# Altium schematic symbol library jlcpcb_2025_04_resistors_extended_1812.schlib: 557 symbols (part 6 of 9)
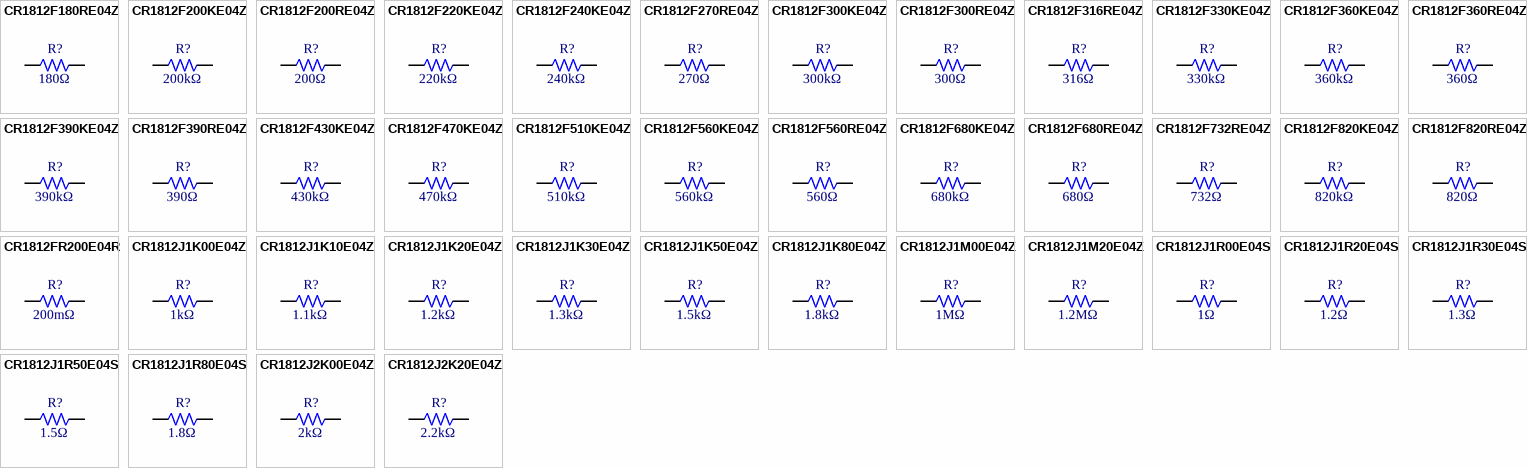
[diagram p18: symbols CR1812F180RE04Z to CR1812J2K20E04Z]

## CR1812J1M20E04Z
designator R?  Resistance: 1.2MΩ  (hidden comment: *)
Resistor, 1.2MΩ, ±5%, 500mW, 200V, ±100ppm/℃, -55℃~+155℃, SMD 1812; Manufacturer: Uniroyal; Manufacturer Part Number: CR1812J1M20E04Z; Supplier 1: LCSC; Supplier Part Number 1: C174913; JLCPCB Part Number: C174913; Power Rating: 500mW; Category: Resistors; Package Size: 1812; JLCPCB Basic Part: Yes; Tolerance: ±5%; Voltage Rating: 200V; Temperature Coefficient: ±100ppm/℃; Temperature Rating: -55℃~+155℃; ComponentLink1Description: Datasheet; ComponentLink1URL: https://wmsc.lcsc.com/wmsc/upload/file/pdf/v2/lcsc/2304140030_Ever-Ohms-Tech-CR1812J1M20E04Z_C174913.pdf; ComponentLink2Description: JLCPCB Part URL; ComponentLink2URL: https://jlcpcb.com/partdetail/C174913
pins: 1, 2
1 alternate drawing of the same symbol

## CR1812J1R00E04S
designator R?  Resistance: 1Ω  (hidden comment: *)
Resistor, 1Ω, ±5%, 750mW, 200V, ±300ppm/℃, -55℃~+155℃, SMD 1812; Manufacturer: Uniroyal; Manufacturer Part Number: CR1812J1R00E04S; Supplier 1: LCSC; Supplier Part Number 1: C428974; JLCPCB Part Number: C428974; Power Rating: 750mW; Category: Resistors; Package Size: 1812; JLCPCB Basic Part: Yes; Tolerance: ±5%; Voltage Rating: 200V; Temperature Coefficient: ±300ppm/℃; Temperature Rating: -55℃~+155℃; ComponentLink1Description: Datasheet; ComponentLink1URL: https://wmsc.lcsc.com/wmsc/upload/file/pdf/v2/lcsc/2304140030_Ever-Ohms-Tech-CR1812J1R00E04S_C428974.pdf; ComponentLink2Description: JLCPCB Part URL; ComponentLink2URL: https://jlcpcb.com/partdetail/C428974
pins: 1, 2
1 alternate drawing of the same symbol

## CR1812J1R20E04S
designator R?  Resistance: 1.2Ω  (hidden comment: *)
Resistor, 1.2Ω, ±5%, 500mW, 200V, ±400ppm/℃, -55℃~+155℃, SMD 1812; Manufacturer: Uniroyal; Manufacturer Part Number: CR1812J1R20E04S; Supplier 1: LCSC; Supplier Part Number 1: C174814; JLCPCB Part Number: C174814; Power Rating: 500mW; Category: Resistors; Package Size: 1812; JLCPCB Basic Part: Yes; Tolerance: ±5%; Voltage Rating: 200V; Temperature Coefficient: ±400ppm/℃; Temperature Rating: -55℃~+155℃; ComponentLink1Description: Datasheet; ComponentLink1URL: https://wmsc.lcsc.com/wmsc/upload/file/pdf/v2/lcsc/2304140030_Ever-Ohms-Tech-CR1812J1R20E04S_C174814.pdf; ComponentLink2Description: JLCPCB Part URL; ComponentLink2URL: https://jlcpcb.com/partdetail/C174814
pins: 1, 2
1 alternate drawing of the same symbol

## CR1812J1R30E04S
designator R?  Resistance: 1.3Ω  (hidden comment: *)
Resistor, 1.3Ω, ±5%, 500mW, 200V, ±400ppm/℃, -55℃~+155℃, SMD 1812; Manufacturer: Uniroyal; Manufacturer Part Number: CR1812J1R30E04S; Supplier 1: LCSC; Supplier Part Number 1: C174815; JLCPCB Part Number: C174815; Power Rating: 500mW; Category: Resistors; Package Size: 1812; JLCPCB Basic Part: Yes; Tolerance: ±5%; Voltage Rating: 200V; Temperature Coefficient: ±400ppm/℃; Temperature Rating: -55℃~+155℃; ComponentLink1Description: Datasheet; ComponentLink1URL: https://wmsc.lcsc.com/wmsc/upload/file/pdf/v2/lcsc/2304140030_Ever-Ohms-Tech-CR1812J1R30E04S_C174815.pdf; ComponentLink2Description: JLCPCB Part URL; ComponentLink2URL: https://jlcpcb.com/partdetail/C174815
pins: 1, 2
1 alternate drawing of the same symbol

## CR1812J1R50E04S
designator R?  Resistance: 1.5Ω  (hidden comment: *)
Resistor, 1.5Ω, ±5%, 500mW, 200V, ±400ppm/℃, -55℃~+155℃, SMD 1812; Manufacturer: Uniroyal; Manufacturer Part Number: CR1812J1R50E04S; Supplier 1: LCSC; Supplier Part Number 1: C174816; JLCPCB Part Number: C174816; Power Rating: 500mW; Category: Resistors; Package Size: 1812; JLCPCB Basic Part: Yes; Tolerance: ±5%; Voltage Rating: 200V; Temperature Coefficient: ±400ppm/℃; Temperature Rating: -55℃~+155℃; ComponentLink1Description: Datasheet; ComponentLink1URL: https://wmsc.lcsc.com/wmsc/upload/file/pdf/v2/lcsc/2304140030_Ever-Ohms-Tech-CR1812J1R50E04S_C174816.pdf; ComponentLink2Description: JLCPCB Part URL; ComponentLink2URL: https://jlcpcb.com/partdetail/C174816
pins: 1, 2
1 alternate drawing of the same symbol

## CR1812J1R80E04S
designator R?  Resistance: 1.8Ω  (hidden comment: *)
Resistor, 1.8Ω, ±5%, 500mW, 200V, ±400ppm/℃, -55℃~+155℃, SMD 1812; Manufacturer: Uniroyal; Manufacturer Part Number: CR1812J1R80E04S; Supplier 1: LCSC; Supplier Part Number 1: C174818; JLCPCB Part Number: C174818; Power Rating: 500mW; Category: Resistors; Package Size: 1812; JLCPCB Basic Part: Yes; Tolerance: ±5%; Voltage Rating: 200V; Temperature Coefficient: ±400ppm/℃; Temperature Rating: -55℃~+155℃; ComponentLink1Description: Datasheet; ComponentLink1URL: https://wmsc.lcsc.com/wmsc/upload/file/pdf/v2/lcsc/2304140030_Ever-Ohms-Tech-CR1812J1R80E04S_C174818.pdf; ComponentLink2Description: JLCPCB Part URL; ComponentLink2URL: https://jlcpcb.com/partdetail/C174818
pins: 1, 2
1 alternate drawing of the same symbol

## CR1812J2K00E04Z
designator R?  Resistance: 2kΩ  (hidden comment: *)
Resistor, 2kΩ, ±5%, 500mW, 200V, ±100ppm/℃, -55℃~+155℃, SMD 1812; Manufacturer: Uniroyal; Manufacturer Part Number: CR1812J2K00E04Z; Supplier 1: LCSC; Supplier Part Number 1: C174865; JLCPCB Part Number: C174865; Power Rating: 500mW; Category: Resistors; Package Size: 1812; JLCPCB Basic Part: Yes; Tolerance: ±5%; Voltage Rating: 200V; Temperature Coefficient: ±100ppm/℃; Temperature Rating: -55℃~+155℃; ComponentLink1Description: Datasheet; ComponentLink1URL: https://wmsc.lcsc.com/wmsc/upload/file/pdf/v2/lcsc/2304140030_Ever-Ohms-Tech-CR1812J2K00E04Z_C174865.pdf; ComponentLink2Description: JLCPCB Part URL; ComponentLink2URL: https://jlcpcb.com/partdetail/C174865
pins: 1, 2
1 alternate drawing of the same symbol

## CR1812J2K20E04Z
designator R?  Resistance: 2.2kΩ  (hidden comment: *)
Resistor, 2.2kΩ, ±5%, 500mW, 200V, ±100ppm/℃, -55℃~+155℃, SMD 1812; Manufacturer: Uniroyal; Manufacturer Part Number: CR1812J2K20E04Z; Supplier 1: LCSC; Supplier Part Number 1: C174866; JLCPCB Part Number: C174866; Power Rating: 500mW; Category: Resistors; Package Size: 1812; JLCPCB Basic Part: Yes; Tolerance: ±5%; Voltage Rating: 200V; Temperature Coefficient: ±100ppm/℃; Temperature Rating: -55℃~+155℃; ComponentLink1Description: Datasheet; ComponentLink1URL: https://wmsc.lcsc.com/wmsc/upload/file/pdf/v2/lcsc/2304140030_Ever-Ohms-Tech-CR1812J2K20E04Z_C174866.pdf; ComponentLink2Description: JLCPCB Part URL; ComponentLink2URL: https://jlcpcb.com/partdetail/C174866
pins: 1, 2
1 alternate drawing of the same symbol

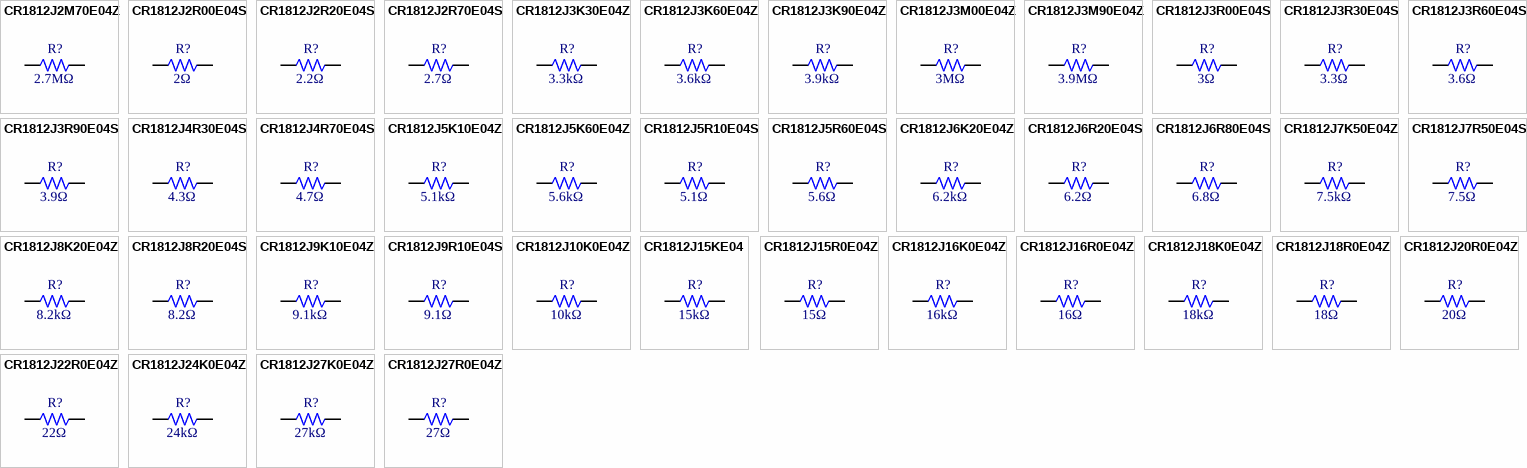
[diagram p8: symbols CR1812J2M70E04Z to CR1812J27R0E04Z]

## CR1812J2M70E04Z
designator R?  Resistance: 2.7MΩ  (hidden comment: *)
Resistor, 2.7MΩ, ±5%, 500mW, 200V, ±100ppm/℃, -55℃~+155℃, SMD 1812; Manufacturer: Uniroyal; Manufacturer Part Number: CR1812J2M70E04Z; Supplier 1: LCSC; Supplier Part Number 1: C174919; JLCPCB Part Number: C174919; Power Rating: 500mW; Category: Resistors; Package Size: 1812; JLCPCB Basic Part: Yes; Tolerance: ±5%; Voltage Rating: 200V; Temperature Coefficient: ±100ppm/℃; Temperature Rating: -55℃~+155℃; ComponentLink1Description: Datasheet; ComponentLink1URL: https://wmsc.lcsc.com/wmsc/upload/file/pdf/v2/lcsc/2304140030_Ever-Ohms-Tech-CR1812J2M70E04Z_C174919.pdf; ComponentLink2Description: JLCPCB Part URL; ComponentLink2URL: https://jlcpcb.com/partdetail/C174919
pins: 1, 2
1 alternate drawing of the same symbol

## CR1812J2R00E04S
designator R?  Resistance: 2Ω  (hidden comment: *)
Resistor, 2Ω, ±5%, 500mW, 200V, ±400ppm/℃, -55℃~+155℃, SMD 1812; Manufacturer: Uniroyal; Manufacturer Part Number: CR1812J2R00E04S; Supplier 1: LCSC; Supplier Part Number 1: C149839; JLCPCB Part Number: C149839; Power Rating: 500mW; Category: Resistors; Package Size: 1812; JLCPCB Basic Part: Yes; Tolerance: ±5%; Voltage Rating: 200V; Temperature Coefficient: ±400ppm/℃; Temperature Rating: -55℃~+155℃; ComponentLink1Description: Datasheet; ComponentLink1URL: https://wmsc.lcsc.com/wmsc/upload/file/pdf/v2/lcsc/2304140030_Ever-Ohms-Tech-CR1812J2R00E04S_C149839.pdf; ComponentLink2Description: JLCPCB Part URL; ComponentLink2URL: https://jlcpcb.com/partdetail/C149839
pins: 1, 2
1 alternate drawing of the same symbol

## CR1812J2R20E04S
designator R?  Resistance: 2.2Ω  (hidden comment: *)
Resistor, 2.2Ω, ±5%, 500mW, 200V, ±400ppm/℃, -55℃~+155℃, SMD 1812; Manufacturer: Uniroyal; Manufacturer Part Number: CR1812J2R20E04S; Supplier 1: LCSC; Supplier Part Number 1: C174819; JLCPCB Part Number: C174819; Power Rating: 500mW; Category: Resistors; Package Size: 1812; JLCPCB Basic Part: Yes; Tolerance: ±5%; Voltage Rating: 200V; Temperature Coefficient: ±400ppm/℃; Temperature Rating: -55℃~+155℃; ComponentLink1Description: Datasheet; ComponentLink1URL: https://wmsc.lcsc.com/wmsc/upload/file/pdf/v2/lcsc/2304140030_Ever-Ohms-Tech-CR1812J2R20E04S_C174819.pdf; ComponentLink2Description: JLCPCB Part URL; ComponentLink2URL: https://jlcpcb.com/partdetail/C174819
pins: 1, 2
1 alternate drawing of the same symbol

## CR1812J2R70E04S
designator R?  Resistance: 2.7Ω  (hidden comment: *)
Resistor, 2.7Ω, ±5%, 500mW, 200V, ±400ppm/℃, -55℃~+155℃, SMD 1812; Manufacturer: Uniroyal; Manufacturer Part Number: CR1812J2R70E04S; Supplier 1: LCSC; Supplier Part Number 1: C174820; JLCPCB Part Number: C174820; Power Rating: 500mW; Category: Resistors; Package Size: 1812; JLCPCB Basic Part: Yes; Tolerance: ±5%; Voltage Rating: 200V; Temperature Coefficient: ±400ppm/℃; Temperature Rating: -55℃~+155℃; ComponentLink1Description: Datasheet; ComponentLink1URL: https://wmsc.lcsc.com/wmsc/upload/file/pdf/v2/lcsc/2304140030_Ever-Ohms-Tech-CR1812J2R70E04S_C174820.pdf; ComponentLink2Description: JLCPCB Part URL; ComponentLink2URL: https://jlcpcb.com/partdetail/C174820
pins: 1, 2
1 alternate drawing of the same symbol

## CR1812J3K30E04Z
designator R?  Resistance: 3.3kΩ  (hidden comment: *)
Resistor, 3.3kΩ, ±5%, 500mW, 200V, ±100ppm/℃, -55℃~+155℃, SMD 1812; Manufacturer: Uniroyal; Manufacturer Part Number: CR1812J3K30E04Z; Supplier 1: LCSC; Supplier Part Number 1: C245663; JLCPCB Part Number: C245663; Power Rating: 500mW; Category: Resistors; Package Size: 1812; JLCPCB Basic Part: Yes; Tolerance: ±5%; Voltage Rating: 200V; Temperature Coefficient: ±100ppm/℃; Temperature Rating: -55℃~+155℃; ComponentLink1Description: Datasheet; ComponentLink1URL: https://wmsc.lcsc.com/wmsc/upload/file/pdf/v2/lcsc/2404011707_Ever-Ohms-Tech-CR1812J3K30E04Z_C245663.pdf; ComponentLink2Description: JLCPCB Part URL; ComponentLink2URL: https://jlcpcb.com/partdetail/C245663
pins: 1, 2
1 alternate drawing of the same symbol

## CR1812J3K60E04Z
designator R?  Resistance: 3.6kΩ  (hidden comment: *)
Resistor, 3.6kΩ, ±5%, 500mW, 200V, ±100ppm/℃, -55℃~+155℃, SMD 1812; Manufacturer: Uniroyal; Manufacturer Part Number: CR1812J3K60E04Z; Supplier 1: LCSC; Supplier Part Number 1: C174869; JLCPCB Part Number: C174869; Power Rating: 500mW; Category: Resistors; Package Size: 1812; JLCPCB Basic Part: Yes; Tolerance: ±5%; Voltage Rating: 200V; Temperature Coefficient: ±100ppm/℃; Temperature Rating: -55℃~+155℃; ComponentLink1Description: Datasheet; ComponentLink1URL: https://wmsc.lcsc.com/wmsc/upload/file/pdf/v2/lcsc/2304140030_Ever-Ohms-Tech-CR1812J3K60E04Z_C174869.pdf; ComponentLink2Description: JLCPCB Part URL; ComponentLink2URL: https://jlcpcb.com/partdetail/C174869
pins: 1, 2
1 alternate drawing of the same symbol

## CR1812J3K90E04Z
designator R?  Resistance: 3.9kΩ  (hidden comment: *)
Resistor, 3.9kΩ, ±5%, 500mW, 200V, ±100ppm/℃, -55℃~+155℃, SMD 1812; Manufacturer: Uniroyal; Manufacturer Part Number: CR1812J3K90E04Z; Supplier 1: LCSC; Supplier Part Number 1: C174870; JLCPCB Part Number: C174870; Power Rating: 500mW; Category: Resistors; Package Size: 1812; JLCPCB Basic Part: Yes; Tolerance: ±5%; Voltage Rating: 200V; Temperature Coefficient: ±100ppm/℃; Temperature Rating: -55℃~+155℃; ComponentLink1Description: Datasheet; ComponentLink1URL: https://wmsc.lcsc.com/wmsc/upload/file/pdf/v2/lcsc/2304140030_Ever-Ohms-Tech-CR1812J3K90E04Z_C174870.pdf; ComponentLink2Description: JLCPCB Part URL; ComponentLink2URL: https://jlcpcb.com/partdetail/C174870
pins: 1, 2
1 alternate drawing of the same symbol

## CR1812J3M00E04Z
designator R?  Resistance: 3MΩ  (hidden comment: *)
Resistor, 3MΩ, ±5%, 500mW, 200V, ±100ppm/℃, -55℃~+155℃, SMD 1812; Manufacturer: Uniroyal; Manufacturer Part Number: CR1812J3M00E04Z; Supplier 1: LCSC; Supplier Part Number 1: C174920; JLCPCB Part Number: C174920; Power Rating: 500mW; Category: Resistors; Package Size: 1812; JLCPCB Basic Part: Yes; Tolerance: ±5%; Voltage Rating: 200V; Temperature Coefficient: ±100ppm/℃; Temperature Rating: -55℃~+155℃; ComponentLink1Description: Datasheet; ComponentLink1URL: https://wmsc.lcsc.com/wmsc/upload/file/pdf/v2/lcsc/2304140030_Ever-Ohms-Tech-CR1812J3M00E04Z_C174920.pdf; ComponentLink2Description: JLCPCB Part URL; ComponentLink2URL: https://jlcpcb.com/partdetail/C174920
pins: 1, 2
1 alternate drawing of the same symbol

## CR1812J3M90E04Z
designator R?  Resistance: 3.9MΩ  (hidden comment: *)
Resistor, 3.9MΩ, ±5%, 500mW, 200V, ±100ppm/℃, -55℃~+155℃, SMD 1812; Manufacturer: Uniroyal; Manufacturer Part Number: CR1812J3M90E04Z; Supplier 1: LCSC; Supplier Part Number 1: C174923; JLCPCB Part Number: C174923; Power Rating: 500mW; Category: Resistors; Package Size: 1812; JLCPCB Basic Part: Yes; Tolerance: ±5%; Voltage Rating: 200V; Temperature Coefficient: ±100ppm/℃; Temperature Rating: -55℃~+155℃; ComponentLink1Description: Datasheet; ComponentLink1URL: https://wmsc.lcsc.com/wmsc/upload/file/pdf/v2/lcsc/2304140030_Ever-Ohms-Tech-CR1812J3M90E04Z_C174923.pdf; ComponentLink2Description: JLCPCB Part URL; ComponentLink2URL: https://jlcpcb.com/partdetail/C174923
pins: 1, 2
1 alternate drawing of the same symbol

## CR1812J3R00E04S
designator R?  Resistance: 3Ω  (hidden comment: *)
Resistor, 3Ω, ±5%, 500mW, 200V, ±400ppm/℃, -55℃~+155℃, SMD 1812; Manufacturer: Uniroyal; Manufacturer Part Number: CR1812J3R00E04S; Supplier 1: LCSC; Supplier Part Number 1: C245664; JLCPCB Part Number: C245664; Power Rating: 500mW; Category: Resistors; Package Size: 1812; JLCPCB Basic Part: Yes; Tolerance: ±5%; Voltage Rating: 200V; Temperature Coefficient: ±400ppm/℃; Temperature Rating: -55℃~+155℃; ComponentLink1Description: Datasheet; ComponentLink1URL: https://wmsc.lcsc.com/wmsc/upload/file/pdf/v2/lcsc/2404011707_Ever-Ohms-Tech-CR1812J3R00E04S_C245664.pdf; ComponentLink2Description: JLCPCB Part URL; ComponentLink2URL: https://jlcpcb.com/partdetail/C245664
pins: 1, 2
1 alternate drawing of the same symbol

## CR1812J3R30E04S
designator R?  Resistance: 3.3Ω  (hidden comment: *)
Resistor, 3.3Ω, ±5%, 500mW, 200V, ±400ppm/℃, -55℃~+155℃, SMD 1812; Manufacturer: Uniroyal; Manufacturer Part Number: CR1812J3R30E04S; Supplier 1: LCSC; Supplier Part Number 1: C174821; JLCPCB Part Number: C174821; Power Rating: 500mW; Category: Resistors; Package Size: 1812; JLCPCB Basic Part: Yes; Tolerance: ±5%; Voltage Rating: 200V; Temperature Coefficient: ±400ppm/℃; Temperature Rating: -55℃~+155℃; ComponentLink1Description: Datasheet; ComponentLink1URL: https://wmsc.lcsc.com/wmsc/upload/file/pdf/v2/lcsc/2304140030_Ever-Ohms-Tech-CR1812J3R30E04S_C174821.pdf; ComponentLink2Description: JLCPCB Part URL; ComponentLink2URL: https://jlcpcb.com/partdetail/C174821
pins: 1, 2
1 alternate drawing of the same symbol

## CR1812J3R60E04S
designator R?  Resistance: 3.6Ω  (hidden comment: *)
Resistor, 3.6Ω, ±5%, 500mW, 200V, ±400ppm/℃, -55℃~+155℃, SMD 1812; Manufacturer: Uniroyal; Manufacturer Part Number: CR1812J3R60E04S; Supplier 1: LCSC; Supplier Part Number 1: C174822; JLCPCB Part Number: C174822; Power Rating: 500mW; Category: Resistors; Package Size: 1812; JLCPCB Basic Part: Yes; Tolerance: ±5%; Voltage Rating: 200V; Temperature Coefficient: ±400ppm/℃; Temperature Rating: -55℃~+155℃; ComponentLink1Description: Datasheet; ComponentLink1URL: https://wmsc.lcsc.com/wmsc/upload/file/pdf/v2/lcsc/2304140030_Ever-Ohms-Tech-CR1812J3R60E04S_C174822.pdf; ComponentLink2Description: JLCPCB Part URL; ComponentLink2URL: https://jlcpcb.com/partdetail/C174822
pins: 1, 2
1 alternate drawing of the same symbol

## CR1812J3R90E04S
designator R?  Resistance: 3.9Ω  (hidden comment: *)
Resistor, 3.9Ω, ±5%, 500mW, 200V, ±400ppm/℃, -55℃~+155℃, SMD 1812; Manufacturer: Uniroyal; Manufacturer Part Number: CR1812J3R90E04S; Supplier 1: LCSC; Supplier Part Number 1: C174823; JLCPCB Part Number: C174823; Power Rating: 500mW; Category: Resistors; Package Size: 1812; JLCPCB Basic Part: Yes; Tolerance: ±5%; Voltage Rating: 200V; Temperature Coefficient: ±400ppm/℃; Temperature Rating: -55℃~+155℃; ComponentLink1Description: Datasheet; ComponentLink1URL: https://wmsc.lcsc.com/wmsc/upload/file/pdf/v2/lcsc/2304140030_Ever-Ohms-Tech-CR1812J3R90E04S_C174823.pdf; ComponentLink2Description: JLCPCB Part URL; ComponentLink2URL: https://jlcpcb.com/partdetail/C174823
pins: 1, 2
1 alternate drawing of the same symbol

## CR1812J4R30E04S
designator R?  Resistance: 4.3Ω  (hidden comment: *)
Resistor, 4.3Ω, ±5%, 500mW, 200V, ±400ppm/℃, -55℃~+155℃, SMD 1812; Manufacturer: Uniroyal; Manufacturer Part Number: CR1812J4R30E04S; Supplier 1: LCSC; Supplier Part Number 1: C174824; JLCPCB Part Number: C174824; Power Rating: 500mW; Category: Resistors; Package Size: 1812; JLCPCB Basic Part: Yes; Tolerance: ±5%; Voltage Rating: 200V; Temperature Coefficient: ±400ppm/℃; Temperature Rating: -55℃~+155℃; ComponentLink1Description: Datasheet; ComponentLink1URL: https://wmsc.lcsc.com/wmsc/upload/file/pdf/v2/lcsc/2304140030_Ever-Ohms-Tech-CR1812J4R30E04S_C174824.pdf; ComponentLink2Description: JLCPCB Part URL; ComponentLink2URL: https://jlcpcb.com/partdetail/C174824
pins: 1, 2
1 alternate drawing of the same symbol

## CR1812J4R70E04S
designator R?  Resistance: 4.7Ω  (hidden comment: *)
Resistor, 4.7Ω, ±5%, 500mW, 200V, ±400ppm/℃, -55℃~+155℃, SMD 1812; Manufacturer: Uniroyal; Manufacturer Part Number: CR1812J4R70E04S; Supplier 1: LCSC; Supplier Part Number 1: C174825; JLCPCB Part Number: C174825; Power Rating: 500mW; Category: Resistors; Package Size: 1812; JLCPCB Basic Part: Yes; Tolerance: ±5%; Voltage Rating: 200V; Temperature Coefficient: ±400ppm/℃; Temperature Rating: -55℃~+155℃; ComponentLink1Description: Datasheet; ComponentLink1URL: https://wmsc.lcsc.com/wmsc/upload/file/pdf/v2/lcsc/2304140030_Ever-Ohms-Tech-CR1812J4R70E04S_C174825.pdf; ComponentLink2Description: JLCPCB Part URL; ComponentLink2URL: https://jlcpcb.com/partdetail/C174825
pins: 1, 2
1 alternate drawing of the same symbol

## CR1812J5K10E04Z
designator R?  Resistance: 5.1kΩ  (hidden comment: *)
Resistor, 5.1kΩ, ±5%, 500mW, 200V, ±100ppm/℃, -55℃~+155℃, SMD 1812; Manufacturer: Uniroyal; Manufacturer Part Number: CR1812J5K10E04Z; Supplier 1: LCSC; Supplier Part Number 1: C149842; JLCPCB Part Number: C149842; Power Rating: 500mW; Category: Resistors; Package Size: 1812; JLCPCB Basic Part: Yes; Tolerance: ±5%; Voltage Rating: 200V; Temperature Coefficient: ±100ppm/℃; Temperature Rating: -55℃~+155℃; ComponentLink1Description: Datasheet; ComponentLink1URL: https://wmsc.lcsc.com/wmsc/upload/file/pdf/v2/lcsc/2304140030_Ever-Ohms-Tech-CR1812J5K10E04Z_C149842.pdf; ComponentLink2Description: JLCPCB Part URL; ComponentLink2URL: https://jlcpcb.com/partdetail/C149842
pins: 1, 2
1 alternate drawing of the same symbol

## CR1812J5K60E04Z
designator R?  Resistance: 5.6kΩ  (hidden comment: *)
Resistor, 5.6kΩ, ±5%, 500mW, 200V, ±100ppm/℃, -55℃~+155℃, SMD 1812; Manufacturer: Uniroyal; Manufacturer Part Number: CR1812J5K60E04Z; Supplier 1: LCSC; Supplier Part Number 1: C174872; JLCPCB Part Number: C174872; Power Rating: 500mW; Category: Resistors; Package Size: 1812; JLCPCB Basic Part: Yes; Tolerance: ±5%; Voltage Rating: 200V; Temperature Coefficient: ±100ppm/℃; Temperature Rating: -55℃~+155℃; ComponentLink1Description: Datasheet; ComponentLink1URL: https://wmsc.lcsc.com/wmsc/upload/file/pdf/v2/lcsc/2304140030_Ever-Ohms-Tech-CR1812J5K60E04Z_C174872.pdf; ComponentLink2Description: JLCPCB Part URL; ComponentLink2URL: https://jlcpcb.com/partdetail/C174872
pins: 1, 2
1 alternate drawing of the same symbol

## CR1812J5R10E04S
designator R?  Resistance: 5.1Ω  (hidden comment: *)
Resistor, 5.1Ω, ±5%, 500mW, 200V, ±400ppm/℃, -55℃~+155℃, SMD 1812; Manufacturer: Uniroyal; Manufacturer Part Number: CR1812J5R10E04S; Supplier 1: LCSC; Supplier Part Number 1: C146975; JLCPCB Part Number: C146975; Power Rating: 500mW; Category: Resistors; Package Size: 1812; JLCPCB Basic Part: Yes; Tolerance: ±5%; Voltage Rating: 200V; Temperature Coefficient: ±400ppm/℃; Temperature Rating: -55℃~+155℃; ComponentLink1Description: Datasheet; ComponentLink1URL: https://wmsc.lcsc.com/wmsc/upload/file/pdf/v2/lcsc/2304140030_Ever-Ohms-Tech-CR1812J5R10E04S_C146975.pdf; ComponentLink2Description: JLCPCB Part URL; ComponentLink2URL: https://jlcpcb.com/partdetail/C146975
pins: 1, 2
1 alternate drawing of the same symbol

## CR1812J5R60E04S
designator R?  Resistance: 5.6Ω  (hidden comment: *)
Resistor, 5.6Ω, ±5%, 500mW, 200V, ±400ppm/℃, -55℃~+155℃, SMD 1812; Manufacturer: Uniroyal; Manufacturer Part Number: CR1812J5R60E04S; Supplier 1: LCSC; Supplier Part Number 1: C149843; JLCPCB Part Number: C149843; Power Rating: 500mW; Category: Resistors; Package Size: 1812; JLCPCB Basic Part: Yes; Tolerance: ±5%; Voltage Rating: 200V; Temperature Coefficient: ±400ppm/℃; Temperature Rating: -55℃~+155℃; ComponentLink1Description: Datasheet; ComponentLink1URL: https://wmsc.lcsc.com/wmsc/upload/file/pdf/v2/lcsc/2304140030_Ever-Ohms-Tech-CR1812J5R60E04S_C149843.pdf; ComponentLink2Description: JLCPCB Part URL; ComponentLink2URL: https://jlcpcb.com/partdetail/C149843
pins: 1, 2
1 alternate drawing of the same symbol

## CR1812J6K20E04Z
designator R?  Resistance: 6.2kΩ  (hidden comment: *)
Resistor, 6.2kΩ, ±5%, 500mW, 200V, ±100ppm/℃, -55℃~+155℃, SMD 1812; Manufacturer: Uniroyal; Manufacturer Part Number: CR1812J6K20E04Z; Supplier 1: LCSC; Supplier Part Number 1: C174873; JLCPCB Part Number: C174873; Power Rating: 500mW; Category: Resistors; Package Size: 1812; JLCPCB Basic Part: Yes; Tolerance: ±5%; Voltage Rating: 200V; Temperature Coefficient: ±100ppm/℃; Temperature Rating: -55℃~+155℃; ComponentLink1Description: Datasheet; ComponentLink1URL: https://wmsc.lcsc.com/wmsc/upload/file/pdf/v2/lcsc/2304140030_Ever-Ohms-Tech-CR1812J6K20E04Z_C174873.pdf; ComponentLink2Description: JLCPCB Part URL; ComponentLink2URL: https://jlcpcb.com/partdetail/C174873
pins: 1, 2
1 alternate drawing of the same symbol

## CR1812J6R20E04S
designator R?  Resistance: 6.2Ω  (hidden comment: *)
Resistor, 6.2Ω, ±5%, 500mW, 200V, ±400ppm/℃, -55℃~+155℃, SMD 1812; Manufacturer: Uniroyal; Manufacturer Part Number: CR1812J6R20E04S; Supplier 1: LCSC; Supplier Part Number 1: C174827; JLCPCB Part Number: C174827; Power Rating: 500mW; Category: Resistors; Package Size: 1812; JLCPCB Basic Part: Yes; Tolerance: ±5%; Voltage Rating: 200V; Temperature Coefficient: ±400ppm/℃; Temperature Rating: -55℃~+155℃; ComponentLink1Description: Datasheet; ComponentLink1URL: https://wmsc.lcsc.com/wmsc/upload/file/pdf/v2/lcsc/2304140030_Ever-Ohms-Tech-CR1812J6R20E04S_C174827.pdf; ComponentLink2Description: JLCPCB Part URL; ComponentLink2URL: https://jlcpcb.com/partdetail/C174827
pins: 1, 2
1 alternate drawing of the same symbol

## CR1812J6R80E04S
designator R?  Resistance: 6.8Ω  (hidden comment: *)
Resistor, 6.8Ω, ±5%, 500mW, 200V, ±400ppm/℃, -55℃~+155℃, SMD 1812; Manufacturer: Uniroyal; Manufacturer Part Number: CR1812J6R80E04S; Supplier 1: LCSC; Supplier Part Number 1: C174828; JLCPCB Part Number: C174828; Power Rating: 500mW; Category: Resistors; Package Size: 1812; JLCPCB Basic Part: Yes; Tolerance: ±5%; Voltage Rating: 200V; Temperature Coefficient: ±400ppm/℃; Temperature Rating: -55℃~+155℃; ComponentLink1Description: Datasheet; ComponentLink1URL: https://wmsc.lcsc.com/wmsc/upload/file/pdf/v2/lcsc/2304140030_Ever-Ohms-Tech-CR1812J6R80E04S_C174828.pdf; ComponentLink2Description: JLCPCB Part URL; ComponentLink2URL: https://jlcpcb.com/partdetail/C174828
pins: 1, 2
1 alternate drawing of the same symbol

## CR1812J7K50E04Z
designator R?  Resistance: 7.5kΩ  (hidden comment: *)
Resistor, 7.5kΩ, ±5%, 500mW, 200V, ±100ppm/℃, -55℃~+155℃, SMD 1812; Manufacturer: Uniroyal; Manufacturer Part Number: CR1812J7K50E04Z; Supplier 1: LCSC; Supplier Part Number 1: C174875; JLCPCB Part Number: C174875; Power Rating: 500mW; Category: Resistors; Package Size: 1812; JLCPCB Basic Part: Yes; Tolerance: ±5%; Voltage Rating: 200V; Temperature Coefficient: ±100ppm/℃; Temperature Rating: -55℃~+155℃; ComponentLink1Description: Datasheet; ComponentLink1URL: https://wmsc.lcsc.com/wmsc/upload/file/pdf/v2/lcsc/2304140030_Ever-Ohms-Tech-CR1812J7K50E04Z_C174875.pdf; ComponentLink2Description: JLCPCB Part URL; ComponentLink2URL: https://jlcpcb.com/partdetail/C174875
pins: 1, 2
1 alternate drawing of the same symbol

## CR1812J7R50E04S
designator R?  Resistance: 7.5Ω  (hidden comment: *)
Resistor, 7.5Ω, ±5%, 500mW, 200V, ±400ppm/℃, -55℃~+155℃, SMD 1812; Manufacturer: Uniroyal; Manufacturer Part Number: CR1812J7R50E04S; Supplier 1: LCSC; Supplier Part Number 1: C174829; JLCPCB Part Number: C174829; Power Rating: 500mW; Category: Resistors; Package Size: 1812; JLCPCB Basic Part: Yes; Tolerance: ±5%; Voltage Rating: 200V; Temperature Coefficient: ±400ppm/℃; Temperature Rating: -55℃~+155℃; ComponentLink1Description: Datasheet; ComponentLink1URL: https://wmsc.lcsc.com/wmsc/upload/file/pdf/v2/lcsc/2304140030_Ever-Ohms-Tech-CR1812J7R50E04S_C174829.pdf; ComponentLink2Description: JLCPCB Part URL; ComponentLink2URL: https://jlcpcb.com/partdetail/C174829
pins: 1, 2
1 alternate drawing of the same symbol

## CR1812J8K20E04Z
designator R?  Resistance: 8.2kΩ  (hidden comment: *)
Resistor, 8.2kΩ, ±5%, 500mW, 200V, ±100ppm/℃, -55℃~+155℃, SMD 1812; Manufacturer: Uniroyal; Manufacturer Part Number: CR1812J8K20E04Z; Supplier 1: LCSC; Supplier Part Number 1: C174876; JLCPCB Part Number: C174876; Power Rating: 500mW; Category: Resistors; Package Size: 1812; JLCPCB Basic Part: Yes; Tolerance: ±5%; Voltage Rating: 200V; Temperature Coefficient: ±100ppm/℃; Temperature Rating: -55℃~+155℃; ComponentLink1Description: Datasheet; ComponentLink1URL: https://wmsc.lcsc.com/wmsc/upload/file/pdf/v2/lcsc/2304140030_Ever-Ohms-Tech-CR1812J8K20E04Z_C174876.pdf; ComponentLink2Description: JLCPCB Part URL; ComponentLink2URL: https://jlcpcb.com/partdetail/C174876
pins: 1, 2
1 alternate drawing of the same symbol

## CR1812J8R20E04S
designator R?  Resistance: 8.2Ω  (hidden comment: *)
Resistor, 8.2Ω, ±5%, 500mW, 200V, ±400ppm/℃, -55℃~+155℃, SMD 1812; Manufacturer: Uniroyal; Manufacturer Part Number: CR1812J8R20E04S; Supplier 1: LCSC; Supplier Part Number 1: C174830; JLCPCB Part Number: C174830; Power Rating: 500mW; Category: Resistors; Package Size: 1812; JLCPCB Basic Part: Yes; Tolerance: ±5%; Voltage Rating: 200V; Temperature Coefficient: ±400ppm/℃; Temperature Rating: -55℃~+155℃; ComponentLink1Description: Datasheet; ComponentLink1URL: https://wmsc.lcsc.com/wmsc/upload/file/pdf/v2/lcsc/2304140030_Ever-Ohms-Tech-CR1812J8R20E04S_C174830.pdf; ComponentLink2Description: JLCPCB Part URL; ComponentLink2URL: https://jlcpcb.com/partdetail/C174830
pins: 1, 2
1 alternate drawing of the same symbol

## CR1812J9K10E04Z
designator R?  Resistance: 9.1kΩ  (hidden comment: *)
Resistor, 9.1kΩ, ±5%, 500mW, 200V, ±100ppm/℃, -55℃~+155℃, SMD 1812; Manufacturer: Uniroyal; Manufacturer Part Number: CR1812J9K10E04Z; Supplier 1: LCSC; Supplier Part Number 1: C174877; JLCPCB Part Number: C174877; Power Rating: 500mW; Category: Resistors; Package Size: 1812; JLCPCB Basic Part: Yes; Tolerance: ±5%; Voltage Rating: 200V; Temperature Coefficient: ±100ppm/℃; Temperature Rating: -55℃~+155℃; ComponentLink1Description: Datasheet; ComponentLink1URL: https://wmsc.lcsc.com/wmsc/upload/file/pdf/v2/lcsc/2304140030_Ever-Ohms-Tech-CR1812J9K10E04Z_C174877.pdf; ComponentLink2Description: JLCPCB Part URL; ComponentLink2URL: https://jlcpcb.com/partdetail/C174877
pins: 1, 2
1 alternate drawing of the same symbol

## CR1812J9R10E04S
designator R?  Resistance: 9.1Ω  (hidden comment: *)
Resistor, 9.1Ω, ±5%, 500mW, 200V, ±400ppm/℃, -55℃~+155℃, SMD 1812; Manufacturer: Uniroyal; Manufacturer Part Number: CR1812J9R10E04S; Supplier 1: LCSC; Supplier Part Number 1: C174831; JLCPCB Part Number: C174831; Power Rating: 500mW; Category: Resistors; Package Size: 1812; JLCPCB Basic Part: Yes; Tolerance: ±5%; Voltage Rating: 200V; Temperature Coefficient: ±400ppm/℃; Temperature Rating: -55℃~+155℃; ComponentLink1Description: Datasheet; ComponentLink1URL: https://wmsc.lcsc.com/wmsc/upload/file/pdf/v2/lcsc/2304140030_Ever-Ohms-Tech-CR1812J9R10E04S_C174831.pdf; ComponentLink2Description: JLCPCB Part URL; ComponentLink2URL: https://jlcpcb.com/partdetail/C174831
pins: 1, 2
1 alternate drawing of the same symbol

## CR1812J10K0E04Z
designator R?  Resistance: 10kΩ  (hidden comment: *)
Resistor, 10kΩ, ±5%, 500mW, 200V, ±100ppm/℃, -55℃~+155℃, SMD 1812; Manufacturer: Uniroyal; Manufacturer Part Number: CR1812J10K0E04Z; Supplier 1: LCSC; Supplier Part Number 1: C174878; JLCPCB Part Number: C174878; Power Rating: 500mW; Category: Resistors; Package Size: 1812; JLCPCB Basic Part: Yes; Tolerance: ±5%; Voltage Rating: 200V; Temperature Coefficient: ±100ppm/℃; Temperature Rating: -55℃~+155℃; ComponentLink1Description: Datasheet; ComponentLink1URL: https://wmsc.lcsc.com/wmsc/upload/file/pdf/v2/lcsc/2304140030_Ever-Ohms-Tech-CR1812J10K0E04Z_C174878.pdf; ComponentLink2Description: JLCPCB Part URL; ComponentLink2URL: https://jlcpcb.com/partdetail/C174878
pins: 1, 2
1 alternate drawing of the same symbol

## CR1812J15KE04
designator R?  Resistance: 15kΩ  (hidden comment: *)
Resistor, 15kΩ, ±5%, 750mW, 200V, ±200ppm/℃, -55℃~+155℃, SMD 1812; Manufacturer: Uniroyal; Manufacturer Part Number: CR1812J15KE04; Supplier 1: LCSC; Supplier Part Number 1: C429647; JLCPCB Part Number: C429647; Power Rating: 750mW; Category: Resistors; Package Size: 1812; JLCPCB Basic Part: Yes; Tolerance: ±5%; Voltage Rating: 200V; Temperature Coefficient: ±200ppm/℃; Temperature Rating: -55℃~+155℃; ComponentLink1Description: Datasheet; ComponentLink1URL: https://wmsc.lcsc.com/wmsc/upload/file/pdf/v2/lcsc/2304140030_Ever-Ohms-Tech-CR1812J15KE04_C429647.pdf; ComponentLink2Description: JLCPCB Part URL; ComponentLink2URL: https://jlcpcb.com/partdetail/C429647
pins: 1, 2
1 alternate drawing of the same symbol

## CR1812J15R0E04Z
designator R?  Resistance: 15Ω  (hidden comment: *)
Resistor, 15Ω, ±5%, 500mW, 200V, ±100ppm/℃, -55℃~+155℃, SMD 1812; Manufacturer: Uniroyal; Manufacturer Part Number: CR1812J15R0E04Z; Supplier 1: LCSC; Supplier Part Number 1: C149835; JLCPCB Part Number: C149835; Power Rating: 500mW; Category: Resistors; Package Size: 1812; JLCPCB Basic Part: Yes; Tolerance: ±5%; Voltage Rating: 200V; Temperature Coefficient: ±100ppm/℃; Temperature Rating: -55℃~+155℃; ComponentLink1Description: Datasheet; ComponentLink1URL: https://wmsc.lcsc.com/wmsc/upload/file/pdf/v2/lcsc/2304140030_Ever-Ohms-Tech-CR1812J15R0E04Z_C149835.pdf; ComponentLink2Description: JLCPCB Part URL; ComponentLink2URL: https://jlcpcb.com/partdetail/C149835
pins: 1, 2
1 alternate drawing of the same symbol

## CR1812J16K0E04Z
designator R?  Resistance: 16kΩ  (hidden comment: *)
Resistor, 16kΩ, ±5%, 500mW, 200V, ±100ppm/℃, -55℃~+155℃, SMD 1812; Manufacturer: Uniroyal; Manufacturer Part Number: CR1812J16K0E04Z; Supplier 1: LCSC; Supplier Part Number 1: C174881; JLCPCB Part Number: C174881; Power Rating: 500mW; Category: Resistors; Package Size: 1812; JLCPCB Basic Part: Yes; Tolerance: ±5%; Voltage Rating: 200V; Temperature Coefficient: ±100ppm/℃; Temperature Rating: -55℃~+155℃; ComponentLink1Description: Datasheet; ComponentLink1URL: https://wmsc.lcsc.com/wmsc/upload/file/pdf/v2/lcsc/2304140030_Ever-Ohms-Tech-CR1812J16K0E04Z_C174881.pdf; ComponentLink2Description: JLCPCB Part URL; ComponentLink2URL: https://jlcpcb.com/partdetail/C174881
pins: 1, 2
1 alternate drawing of the same symbol

## CR1812J16R0E04Z
designator R?  Resistance: 16Ω  (hidden comment: *)
Resistor, 16Ω, ±5%, 500mW, 200V, ±100ppm/℃, -55℃~+155℃, SMD 1812; Manufacturer: Uniroyal; Manufacturer Part Number: CR1812J16R0E04Z; Supplier 1: LCSC; Supplier Part Number 1: C174834; JLCPCB Part Number: C174834; Power Rating: 500mW; Category: Resistors; Package Size: 1812; JLCPCB Basic Part: Yes; Tolerance: ±5%; Voltage Rating: 200V; Temperature Coefficient: ±100ppm/℃; Temperature Rating: -55℃~+155℃; ComponentLink1Description: Datasheet; ComponentLink1URL: https://wmsc.lcsc.com/wmsc/upload/file/pdf/v2/lcsc/2304140030_Ever-Ohms-Tech-CR1812J16R0E04Z_C174834.pdf; ComponentLink2Description: JLCPCB Part URL; ComponentLink2URL: https://jlcpcb.com/partdetail/C174834
pins: 1, 2
1 alternate drawing of the same symbol

## CR1812J18K0E04Z
designator R?  Resistance: 18kΩ  (hidden comment: *)
Resistor, 18kΩ, ±5%, 500mW, 200V, ±100ppm/℃, -55℃~+155℃, SMD 1812; Manufacturer: Uniroyal; Manufacturer Part Number: CR1812J18K0E04Z; Supplier 1: LCSC; Supplier Part Number 1: C174882; JLCPCB Part Number: C174882; Power Rating: 500mW; Category: Resistors; Package Size: 1812; JLCPCB Basic Part: Yes; Tolerance: ±5%; Voltage Rating: 200V; Temperature Coefficient: ±100ppm/℃; Temperature Rating: -55℃~+155℃; ComponentLink1Description: Datasheet; ComponentLink1URL: https://wmsc.lcsc.com/wmsc/upload/file/pdf/v2/lcsc/2304140030_Ever-Ohms-Tech-CR1812J18K0E04Z_C174882.pdf; ComponentLink2Description: JLCPCB Part URL; ComponentLink2URL: https://jlcpcb.com/partdetail/C174882
pins: 1, 2
1 alternate drawing of the same symbol

## CR1812J18R0E04Z
designator R?  Resistance: 18Ω  (hidden comment: *)
Resistor, 18Ω, ±5%, 500mW, 200V, ±100ppm/℃, -55℃~+155℃, SMD 1812; Manufacturer: Uniroyal; Manufacturer Part Number: CR1812J18R0E04Z; Supplier 1: LCSC; Supplier Part Number 1: C174835; JLCPCB Part Number: C174835; Power Rating: 500mW; Category: Resistors; Package Size: 1812; JLCPCB Basic Part: Yes; Tolerance: ±5%; Voltage Rating: 200V; Temperature Coefficient: ±100ppm/℃; Temperature Rating: -55℃~+155℃; ComponentLink1Description: Datasheet; ComponentLink1URL: https://wmsc.lcsc.com/wmsc/upload/file/pdf/v2/lcsc/2304140030_Ever-Ohms-Tech-CR1812J18R0E04Z_C174835.pdf; ComponentLink2Description: JLCPCB Part URL; ComponentLink2URL: https://jlcpcb.com/partdetail/C174835
pins: 1, 2
1 alternate drawing of the same symbol

## CR1812J20R0E04Z
designator R?  Resistance: 20Ω  (hidden comment: *)
Resistor, 20Ω, ±5%, 500mW, 200V, ±100ppm/℃, -55℃~+155℃, SMD 1812; Manufacturer: Uniroyal; Manufacturer Part Number: CR1812J20R0E04Z; Supplier 1: LCSC; Supplier Part Number 1: C332128; JLCPCB Part Number: C332128; Power Rating: 500mW; Category: Resistors; Package Size: 1812; JLCPCB Basic Part: Yes; Tolerance: ±5%; Voltage Rating: 200V; Temperature Coefficient: ±100ppm/℃; Temperature Rating: -55℃~+155℃; ComponentLink1Description: Datasheet; ComponentLink1URL: https://wmsc.lcsc.com/wmsc/upload/file/pdf/v2/lcsc/2304140030_Ever-Ohms-Tech-CR1812J20R0E04Z_C332128.pdf; ComponentLink2Description: JLCPCB Part URL; ComponentLink2URL: https://jlcpcb.com/partdetail/C332128
pins: 1, 2
1 alternate drawing of the same symbol

## CR1812J22R0E04Z
designator R?  Resistance: 22Ω  (hidden comment: *)
Resistor, 22Ω, ±5%, 500mW, 200V, ±100ppm/℃, -55℃~+155℃, SMD 1812; Manufacturer: Uniroyal; Manufacturer Part Number: CR1812J22R0E04Z; Supplier 1: LCSC; Supplier Part Number 1: C146872; JLCPCB Part Number: C146872; Power Rating: 500mW; Category: Resistors; Package Size: 1812; JLCPCB Basic Part: Yes; Tolerance: ±5%; Voltage Rating: 200V; Temperature Coefficient: ±100ppm/℃; Temperature Rating: -55℃~+155℃; ComponentLink1Description: Datasheet; ComponentLink1URL: https://wmsc.lcsc.com/wmsc/upload/file/pdf/v2/lcsc/2304140030_Ever-Ohms-Tech-CR1812J22R0E04Z_C146872.pdf; ComponentLink2Description: JLCPCB Part URL; ComponentLink2URL: https://jlcpcb.com/partdetail/C146872
pins: 1, 2
1 alternate drawing of the same symbol

## CR1812J24K0E04Z
designator R?  Resistance: 24kΩ  (hidden comment: *)
Resistor, 24kΩ, ±5%, 500mW, 200V, ±100ppm/℃, -55℃~+155℃, SMD 1812; Manufacturer: Uniroyal; Manufacturer Part Number: CR1812J24K0E04Z; Supplier 1: LCSC; Supplier Part Number 1: C174883; JLCPCB Part Number: C174883; Power Rating: 500mW; Category: Resistors; Package Size: 1812; JLCPCB Basic Part: Yes; Tolerance: ±5%; Voltage Rating: 200V; Temperature Coefficient: ±100ppm/℃; Temperature Rating: -55℃~+155℃; ComponentLink1Description: Datasheet; ComponentLink1URL: https://wmsc.lcsc.com/wmsc/upload/file/pdf/v2/lcsc/2304140030_Ever-Ohms-Tech-CR1812J24K0E04Z_C174883.pdf; ComponentLink2Description: JLCPCB Part URL; ComponentLink2URL: https://jlcpcb.com/partdetail/C174883
pins: 1, 2
1 alternate drawing of the same symbol

## CR1812J27K0E04Z
designator R?  Resistance: 27kΩ  (hidden comment: *)
Resistor, 27kΩ, ±5%, 500mW, 200V, ±100ppm/℃, -55℃~+155℃, SMD 1812; Manufacturer: Uniroyal; Manufacturer Part Number: CR1812J27K0E04Z; Supplier 1: LCSC; Supplier Part Number 1: C174884; JLCPCB Part Number: C174884; Power Rating: 500mW; Category: Resistors; Package Size: 1812; JLCPCB Basic Part: Yes; Tolerance: ±5%; Voltage Rating: 200V; Temperature Coefficient: ±100ppm/℃; Temperature Rating: -55℃~+155℃; ComponentLink1Description: Datasheet; ComponentLink1URL: https://wmsc.lcsc.com/wmsc/upload/file/pdf/v2/lcsc/2304140030_Ever-Ohms-Tech-CR1812J27K0E04Z_C174884.pdf; ComponentLink2Description: JLCPCB Part URL; ComponentLink2URL: https://jlcpcb.com/partdetail/C174884
pins: 1, 2
1 alternate drawing of the same symbol

## CR1812J27R0E04Z
designator R?  Resistance: 27Ω  (hidden comment: *)
Resistor, 27Ω, ±5%, 500mW, 200V, ±100ppm/℃, -55℃~+155℃, SMD 1812; Manufacturer: Uniroyal; Manufacturer Part Number: CR1812J27R0E04Z; Supplier 1: LCSC; Supplier Part Number 1: C174836; JLCPCB Part Number: C174836; Power Rating: 500mW; Category: Resistors; Package Size: 1812; JLCPCB Basic Part: Yes; Tolerance: ±5%; Voltage Rating: 200V; Temperature Coefficient: ±100ppm/℃; Temperature Rating: -55℃~+155℃; ComponentLink1Description: Datasheet; ComponentLink1URL: https://wmsc.lcsc.com/wmsc/upload/file/pdf/v2/lcsc/2304140030_Ever-Ohms-Tech-CR1812J27R0E04Z_C174836.pdf; ComponentLink2Description: JLCPCB Part URL; ComponentLink2URL: https://jlcpcb.com/partdetail/C174836
pins: 1, 2
1 alternate drawing of the same symbol

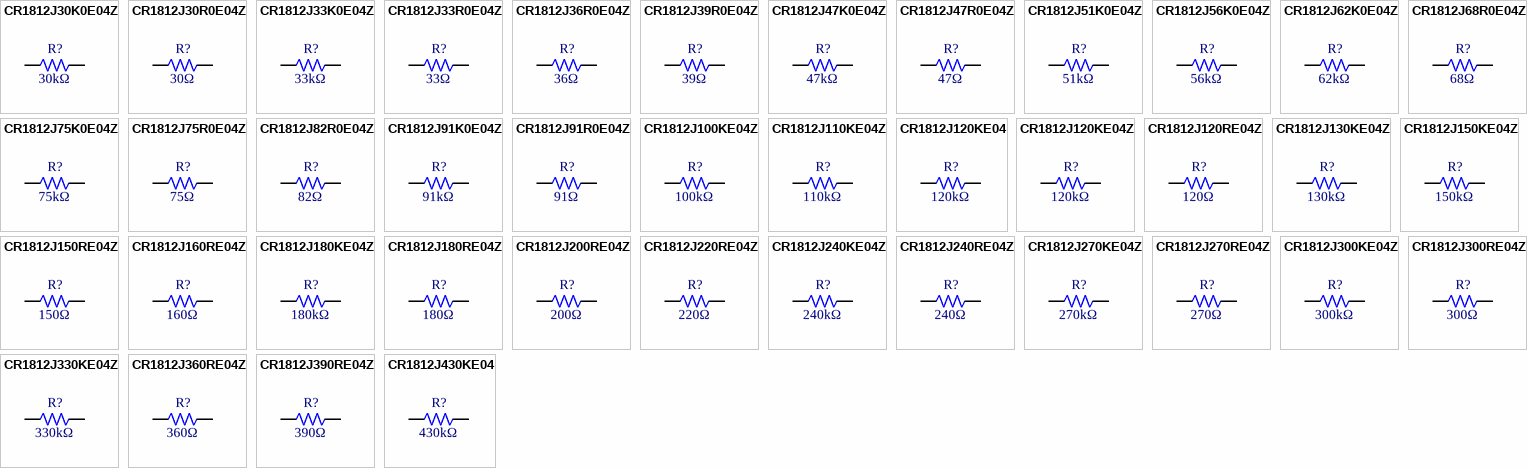
[diagram p9: symbols CR1812J30K0E04Z to CR1812J430KE04]

## CR1812J30K0E04Z
designator R?  Resistance: 30kΩ  (hidden comment: *)
Resistor, 30kΩ, ±5%, 500mW, 200V, ±100ppm/℃, -55℃~+155℃, SMD 1812; Manufacturer: Uniroyal; Manufacturer Part Number: CR1812J30K0E04Z; Supplier 1: LCSC; Supplier Part Number 1: C174885; JLCPCB Part Number: C174885; Power Rating: 500mW; Category: Resistors; Package Size: 1812; JLCPCB Basic Part: Yes; Tolerance: ±5%; Voltage Rating: 200V; Temperature Coefficient: ±100ppm/℃; Temperature Rating: -55℃~+155℃; ComponentLink1Description: Datasheet; ComponentLink1URL: https://wmsc.lcsc.com/wmsc/upload/file/pdf/v2/lcsc/2304140030_Ever-Ohms-Tech-CR1812J30K0E04Z_C174885.pdf; ComponentLink2Description: JLCPCB Part URL; ComponentLink2URL: https://jlcpcb.com/partdetail/C174885
pins: 1, 2
1 alternate drawing of the same symbol

## CR1812J30R0E04Z
designator R?  Resistance: 30Ω  (hidden comment: *)
Resistor, 30Ω, ±5%, 500mW, 200V, ±100ppm/℃, -55℃~+155℃, SMD 1812; Manufacturer: Uniroyal; Manufacturer Part Number: CR1812J30R0E04Z; Supplier 1: LCSC; Supplier Part Number 1: C174837; JLCPCB Part Number: C174837; Power Rating: 500mW; Category: Resistors; Package Size: 1812; JLCPCB Basic Part: Yes; Tolerance: ±5%; Voltage Rating: 200V; Temperature Coefficient: ±100ppm/℃; Temperature Rating: -55℃~+155℃; ComponentLink1Description: Datasheet; ComponentLink1URL: https://wmsc.lcsc.com/wmsc/upload/file/pdf/v2/lcsc/2304140030_Ever-Ohms-Tech-CR1812J30R0E04Z_C174837.pdf; ComponentLink2Description: JLCPCB Part URL; ComponentLink2URL: https://jlcpcb.com/partdetail/C174837
pins: 1, 2
1 alternate drawing of the same symbol

## CR1812J33K0E04Z
designator R?  Resistance: 33kΩ  (hidden comment: *)
Resistor, 33kΩ, ±5%, 500mW, 200V, ±100ppm/℃, -55℃~+155℃, SMD 1812; Manufacturer: Uniroyal; Manufacturer Part Number: CR1812J33K0E04Z; Supplier 1: LCSC; Supplier Part Number 1: C174886; JLCPCB Part Number: C174886; Power Rating: 500mW; Category: Resistors; Package Size: 1812; JLCPCB Basic Part: Yes; Tolerance: ±5%; Voltage Rating: 200V; Temperature Coefficient: ±100ppm/℃; Temperature Rating: -55℃~+155℃; ComponentLink1Description: Datasheet; ComponentLink1URL: https://wmsc.lcsc.com/wmsc/upload/file/pdf/v2/lcsc/2304140030_Ever-Ohms-Tech-CR1812J33K0E04Z_C174886.pdf; ComponentLink2Description: JLCPCB Part URL; ComponentLink2URL: https://jlcpcb.com/partdetail/C174886
pins: 1, 2
1 alternate drawing of the same symbol

## CR1812J33R0E04Z
designator R?  Resistance: 33Ω  (hidden comment: *)
Resistor, 33Ω, ±5%, 500mW, 200V, ±100ppm/℃, -55℃~+155℃, SMD 1812; Manufacturer: Uniroyal; Manufacturer Part Number: CR1812J33R0E04Z; Supplier 1: LCSC; Supplier Part Number 1: C174838; JLCPCB Part Number: C174838; Power Rating: 500mW; Category: Resistors; Package Size: 1812; JLCPCB Basic Part: Yes; Tolerance: ±5%; Voltage Rating: 200V; Temperature Coefficient: ±100ppm/℃; Temperature Rating: -55℃~+155℃; ComponentLink1Description: Datasheet; ComponentLink1URL: https://wmsc.lcsc.com/wmsc/upload/file/pdf/v2/lcsc/2304140030_Ever-Ohms-Tech-CR1812J33R0E04Z_C174838.pdf; ComponentLink2Description: JLCPCB Part URL; ComponentLink2URL: https://jlcpcb.com/partdetail/C174838
pins: 1, 2
1 alternate drawing of the same symbol

## CR1812J36R0E04Z
designator R?  Resistance: 36Ω  (hidden comment: *)
Resistor, 36Ω, ±5%, 500mW, 200V, ±100ppm/℃, -55℃~+155℃, SMD 1812; Manufacturer: Uniroyal; Manufacturer Part Number: CR1812J36R0E04Z; Supplier 1: LCSC; Supplier Part Number 1: C174839; JLCPCB Part Number: C174839; Power Rating: 500mW; Category: Resistors; Package Size: 1812; JLCPCB Basic Part: Yes; Tolerance: ±5%; Voltage Rating: 200V; Temperature Coefficient: ±100ppm/℃; Temperature Rating: -55℃~+155℃; ComponentLink1Description: Datasheet; ComponentLink1URL: https://wmsc.lcsc.com/wmsc/upload/file/pdf/v2/lcsc/2304140030_Ever-Ohms-Tech-CR1812J36R0E04Z_C174839.pdf; ComponentLink2Description: JLCPCB Part URL; ComponentLink2URL: https://jlcpcb.com/partdetail/C174839
pins: 1, 2
1 alternate drawing of the same symbol

## CR1812J39R0E04Z
designator R?  Resistance: 39Ω  (hidden comment: *)
Resistor, 39Ω, ±5%, 500mW, 200V, ±100ppm/℃, -55℃~+155℃, SMD 1812; Manufacturer: Uniroyal; Manufacturer Part Number: CR1812J39R0E04Z; Supplier 1: LCSC; Supplier Part Number 1: C174840; JLCPCB Part Number: C174840; Power Rating: 500mW; Category: Resistors; Package Size: 1812; JLCPCB Basic Part: Yes; Tolerance: ±5%; Voltage Rating: 200V; Temperature Coefficient: ±100ppm/℃; Temperature Rating: -55℃~+155℃; ComponentLink1Description: Datasheet; ComponentLink1URL: https://wmsc.lcsc.com/wmsc/upload/file/pdf/v2/lcsc/2304140030_Ever-Ohms-Tech-CR1812J39R0E04Z_C174840.pdf; ComponentLink2Description: JLCPCB Part URL; ComponentLink2URL: https://jlcpcb.com/partdetail/C174840
pins: 1, 2
1 alternate drawing of the same symbol

## CR1812J47K0E04Z
designator R?  Resistance: 47kΩ  (hidden comment: *)
Resistor, 47kΩ, ±5%, 500mW, 200V, ±100ppm/℃, -55℃~+155℃, SMD 1812; Manufacturer: Uniroyal; Manufacturer Part Number: CR1812J47K0E04Z; Supplier 1: LCSC; Supplier Part Number 1: C174889; JLCPCB Part Number: C174889; Power Rating: 500mW; Category: Resistors; Package Size: 1812; JLCPCB Basic Part: Yes; Tolerance: ±5%; Voltage Rating: 200V; Temperature Coefficient: ±100ppm/℃; Temperature Rating: -55℃~+155℃; ComponentLink1Description: Datasheet; ComponentLink1URL: https://wmsc.lcsc.com/wmsc/upload/file/pdf/v2/lcsc/2304140030_Ever-Ohms-Tech-CR1812J47K0E04Z_C174889.pdf; ComponentLink2Description: JLCPCB Part URL; ComponentLink2URL: https://jlcpcb.com/partdetail/C174889
pins: 1, 2
1 alternate drawing of the same symbol

## CR1812J47R0E04Z
designator R?  Resistance: 47Ω  (hidden comment: *)
Resistor, 47Ω, ±5%, 500mW, 200V, ±100ppm/℃, -55℃~+155℃, SMD 1812; Manufacturer: Uniroyal; Manufacturer Part Number: CR1812J47R0E04Z; Supplier 1: LCSC; Supplier Part Number 1: C149841; JLCPCB Part Number: C149841; Power Rating: 500mW; Category: Resistors; Package Size: 1812; JLCPCB Basic Part: Yes; Tolerance: ±5%; Voltage Rating: 200V; Temperature Coefficient: ±100ppm/℃; Temperature Rating: -55℃~+155℃; ComponentLink1Description: Datasheet; ComponentLink1URL: https://wmsc.lcsc.com/wmsc/upload/file/pdf/v2/lcsc/2304140030_Ever-Ohms-Tech-CR1812J47R0E04Z_C149841.pdf; ComponentLink2Description: JLCPCB Part URL; ComponentLink2URL: https://jlcpcb.com/partdetail/C149841
pins: 1, 2
1 alternate drawing of the same symbol

## CR1812J51K0E04Z
designator R?  Resistance: 51kΩ  (hidden comment: *)
Resistor, 51kΩ, ±5%, 500mW, 200V, ±100ppm/℃, -55℃~+155℃, SMD 1812; Manufacturer: Uniroyal; Manufacturer Part Number: CR1812J51K0E04Z; Supplier 1: LCSC; Supplier Part Number 1: C174890; JLCPCB Part Number: C174890; Power Rating: 500mW; Category: Resistors; Package Size: 1812; JLCPCB Basic Part: Yes; Tolerance: ±5%; Voltage Rating: 200V; Temperature Coefficient: ±100ppm/℃; Temperature Rating: -55℃~+155℃; ComponentLink1Description: Datasheet; ComponentLink1URL: https://wmsc.lcsc.com/wmsc/upload/file/pdf/v2/lcsc/2304140030_Ever-Ohms-Tech-CR1812J51K0E04Z_C174890.pdf; ComponentLink2Description: JLCPCB Part URL; ComponentLink2URL: https://jlcpcb.com/partdetail/C174890
pins: 1, 2
1 alternate drawing of the same symbol

## CR1812J56K0E04Z
designator R?  Resistance: 56kΩ  (hidden comment: *)
Resistor, 56kΩ, ±5%, 500mW, 200V, ±100ppm/℃, -55℃~+155℃, SMD 1812; Manufacturer: Uniroyal; Manufacturer Part Number: CR1812J56K0E04Z; Supplier 1: LCSC; Supplier Part Number 1: C174891; JLCPCB Part Number: C174891; Power Rating: 500mW; Category: Resistors; Package Size: 1812; JLCPCB Basic Part: Yes; Tolerance: ±5%; Voltage Rating: 200V; Temperature Coefficient: ±100ppm/℃; Temperature Rating: -55℃~+155℃; ComponentLink1Description: Datasheet; ComponentLink1URL: https://wmsc.lcsc.com/wmsc/upload/file/pdf/v2/lcsc/2304140030_Ever-Ohms-Tech-CR1812J56K0E04Z_C174891.pdf; ComponentLink2Description: JLCPCB Part URL; ComponentLink2URL: https://jlcpcb.com/partdetail/C174891
pins: 1, 2
1 alternate drawing of the same symbol

## CR1812J62K0E04Z
designator R?  Resistance: 62kΩ  (hidden comment: *)
Resistor, 62kΩ, ±5%, 500mW, 200V, ±100ppm/℃, -55℃~+155℃, SMD 1812; Manufacturer: Uniroyal; Manufacturer Part Number: CR1812J62K0E04Z; Supplier 1: LCSC; Supplier Part Number 1: C174892; JLCPCB Part Number: C174892; Power Rating: 500mW; Category: Resistors; Package Size: 1812; JLCPCB Basic Part: Yes; Tolerance: ±5%; Voltage Rating: 200V; Temperature Coefficient: ±100ppm/℃; Temperature Rating: -55℃~+155℃; ComponentLink1Description: Datasheet; ComponentLink1URL: https://wmsc.lcsc.com/wmsc/upload/file/pdf/v2/lcsc/2304140030_Ever-Ohms-Tech-CR1812J62K0E04Z_C174892.pdf; ComponentLink2Description: JLCPCB Part URL; ComponentLink2URL: https://jlcpcb.com/partdetail/C174892
pins: 1, 2
1 alternate drawing of the same symbol

## CR1812J68R0E04Z
designator R?  Resistance: 68Ω  (hidden comment: *)
Resistor, 68Ω, ±5%, 500mW, 200V, ±100ppm/℃, -55℃~+155℃, SMD 1812; Manufacturer: Uniroyal; Manufacturer Part Number: CR1812J68R0E04Z; Supplier 1: LCSC; Supplier Part Number 1: C174841; JLCPCB Part Number: C174841; Power Rating: 500mW; Category: Resistors; Package Size: 1812; JLCPCB Basic Part: Yes; Tolerance: ±5%; Voltage Rating: 200V; Temperature Coefficient: ±100ppm/℃; Temperature Rating: -55℃~+155℃; ComponentLink1Description: Datasheet; ComponentLink1URL: https://wmsc.lcsc.com/wmsc/upload/file/pdf/v2/lcsc/2304140030_Ever-Ohms-Tech-CR1812J68R0E04Z_C174841.pdf; ComponentLink2Description: JLCPCB Part URL; ComponentLink2URL: https://jlcpcb.com/partdetail/C174841
pins: 1, 2
1 alternate drawing of the same symbol

## CR1812J75K0E04Z
designator R?  Resistance: 75kΩ  (hidden comment: *)
Resistor, 75kΩ, ±5%, 500mW, 200V, ±100ppm/℃, -55℃~+155℃, SMD 1812; Manufacturer: Uniroyal; Manufacturer Part Number: CR1812J75K0E04Z; Supplier 1: LCSC; Supplier Part Number 1: C174893; JLCPCB Part Number: C174893; Power Rating: 500mW; Category: Resistors; Package Size: 1812; JLCPCB Basic Part: Yes; Tolerance: ±5%; Voltage Rating: 200V; Temperature Coefficient: ±100ppm/℃; Temperature Rating: -55℃~+155℃; ComponentLink1Description: Datasheet; ComponentLink1URL: https://wmsc.lcsc.com/wmsc/upload/file/pdf/v2/lcsc/2304140030_Ever-Ohms-Tech-CR1812J75K0E04Z_C174893.pdf; ComponentLink2Description: JLCPCB Part URL; ComponentLink2URL: https://jlcpcb.com/partdetail/C174893
pins: 1, 2
1 alternate drawing of the same symbol

## CR1812J75R0E04Z
designator R?  Resistance: 75Ω  (hidden comment: *)
Resistor, 75Ω, ±5%, 500mW, 200V, ±100ppm/℃, -55℃~+155℃, SMD 1812; Manufacturer: Uniroyal; Manufacturer Part Number: CR1812J75R0E04Z; Supplier 1: LCSC; Supplier Part Number 1: C147061; JLCPCB Part Number: C147061; Power Rating: 500mW; Category: Resistors; Package Size: 1812; JLCPCB Basic Part: Yes; Tolerance: ±5%; Voltage Rating: 200V; Temperature Coefficient: ±100ppm/℃; Temperature Rating: -55℃~+155℃; ComponentLink1Description: Datasheet; ComponentLink1URL: https://wmsc.lcsc.com/wmsc/upload/file/pdf/v2/lcsc/2304140030_Ever-Ohms-Tech-CR1812J75R0E04Z_C147061.pdf; ComponentLink2Description: JLCPCB Part URL; ComponentLink2URL: https://jlcpcb.com/partdetail/C147061
pins: 1, 2
1 alternate drawing of the same symbol